# Altium footprint library richtek-packages.PcbLib: 2 footprints
Each footprint in its own frame and in the unit in brackets; x right, y up, seen from the top. Pads: shape width x height; smd on the part's side, far side on the other; paste and mask are expansions set on the pad; w line width, h text height; cw(c..) or ccw(c..) is an arc to the next point about the centre after c.
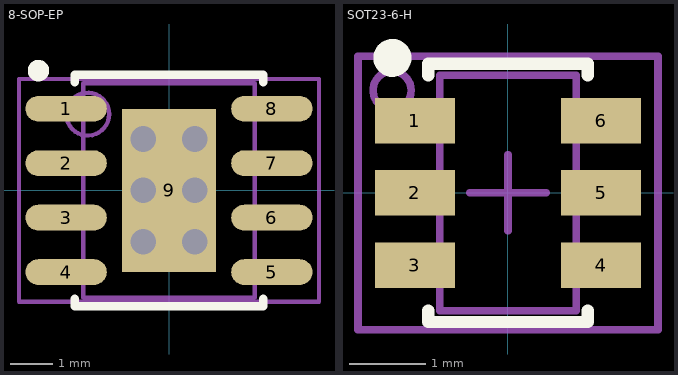
[diagram p0: the footprints below, top view; thin cyan lines are the x and y axes]

## 8-SOP-EP [mm] "SOP, 8-Leads, Body 5.0x4.0mm (max), Pitch 1.27mm, IPC High Density"
height 1.75
pads (9):
  oval 1.9x0.6 smd: 1(-2.4,1.905) 2(-2.4,0.635) 3(-2.4,-0.635) 4(-2.4,-1.905) 5(2.4,-1.905) 6(2.4,-0.635) 7(2.4,0.635) 8(2.4,1.905)
  rect 2.2x3.8 smd: 9(0,0)
via -0.6,1.2 diameter 0.8 hole 0.6
via 0.6,1.2 diameter 0.8 hole 0.6
via -0.6,0 diameter 0.8 hole 0.6
via 0.6,0 diameter 0.8 hole 0.6
via -0.6,-1.2 diameter 0.8 hole 0.6
via 0.6,-1.2 diameter 0.8 hole 0.6
Top Overlay:
  circle w0.25: c-3.046,2.794 r0.125
  lines w0.2: -2.2,-2.525 -2.2,-2.7 2.2,-2.7 2.2,-2.525 ; -2.2,2.525 -2.2,2.7 2.2,2.7 2.2,2.525
Mechanical 13:
  lines w0.1: -2,-2.5 -2,2.5 2,2.5 2,-2.5 -2,-2.5
Mechanical 15:
  circle w0.1: c-1.897,1.778 r0.5
  lines w0.1: -0.5,0 0.5,0 ; 0,-0.5 0,0.5 ; -3.5,-2.6 -3.5,2.6 3.5,2.6 3.5,-2.6 -3.5,-2.6
  text ".Designator" at -2.672,-0.2 h0.5
3D body: height 1.9, standoff 0, extent -3.028,-2.5 3.028,2.5

## SOT23-6-H [mm] "6-Lead Plastic Small Outline Transistor - High Density"
height 1.45
pads (6):
  rect 1.05x0.6 smd: 1(-1.225,0.95) 2(-1.225,0) 3(-1.225,-0.95) 4(1.225,-0.95) 5(1.225,0) 6(1.225,0.95)
Top Overlay:
  circle w0.25: c-1.522,1.778 r0.125
  lines w0.16: -1.05,-1.55 -1.05,-1.7 1.05,-1.7 1.05,-1.55 ; -1.05,1.55 -1.05,1.7 1.05,1.7 1.05,1.55
Mechanical 13:
  lines w0.1: -0.5,0 0.5,0 ; 0,-0.5 0,0.5 ; -0.9,-1.55 -0.9,1.55 0.9,1.55 0.9,-1.55 -0.9,-1.55
Mechanical 15:
  circle w0.1: c-1.526,1.35 r0.251
  lines w0.1: -1.975,-1.8 -1.975,1.8 1.975,1.8 1.975,-1.8 -1.975,-1.8
  text ".Designator" at -0.2,1.275 h0.5
3D body: height 1, standoff 0, extent -1.17,-1.46 1.17,1.46